# EAGLE library part 629105136821 (library isystems-würth)
WR-COM SMT Horizontal 5 Contacts Micro USB Type B,5 pins
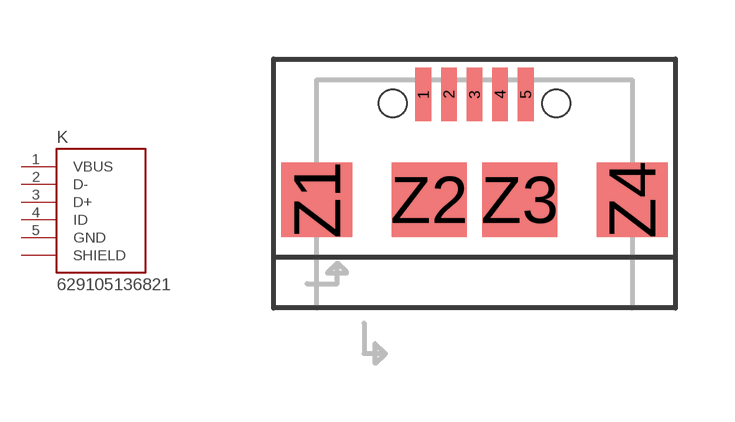
[diagram p3: symbol with the pads of 629105136821; footprint 629105136821]

Designator prefix K

## 629105136821  [629105136821]
1  VBUS  pas
2  D-  pas
3  D+  pas
4  ID  pas
5  GND  pas
Z1  SHIELD  pas
Z2  SHIELD  pas
Z3  SHIELD  pas
Z4  SHIELD  pas

## Footprint 629105136821 (pad centres in mm)
WR-COM SMT Horizontal 5 Contacts Micro USB Type B, 5 pins
smd 0.4 x 1.35: 1 -1.3,0; 2 -0.65,0; 3 0,0; 4 0.65,0; 5 1.3,0
smd 1.8 x 1.9: Z1 -4,-2.675; Z4 4,-2.675
smd 1.9 x 1.9: Z2 -1.15,-2.675; Z3 1.15,-2.675
hole 0.7 at -2.075,-0.225
hole 0.7 at 2.075,-0.225